# Altium footprint library RF.PcbLib: 1 footprints
Each footprint in its own frame and in the unit in brackets; x right, y up, seen from the top. Pads: shape width x height; smd on the part's side, far side on the other; paste and mask are expansions set on the pad; w line width, h text height; cw(c..) or ccw(c..) is an arc to the next point about the centre after c.
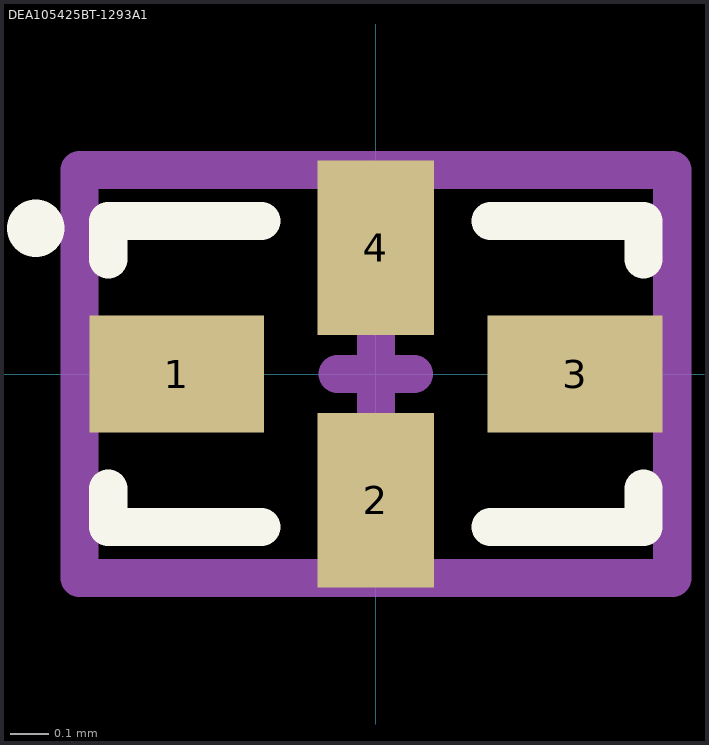
[diagram p0: the footprint, top view; thin cyan lines are the x and y axes]

## DEA105425BT-1293A1 [mil]
pads (4):
  rect 18x12 smd paste+0 mask+0: 1(-20.5,0) 3(20.5,0)
  rect 12x18 smd paste+0 mask+0: 2(0,-13) 4(0,13)
Top Overlay:
  circle w5.91: c-35,15 r0
  lines w3.94: -27.56,-11.81 -27.56,-15.75 -11.81,-15.75 ; -27.56,11.81 -27.56,15.75 -11.81,15.75 ; 11.81,-15.75 27.56,-15.75 27.56,-11.81 ; 11.81,15.75 27.56,15.75 27.56,11.81
Mechanical 15:
  lines w3.94: -3.94,0 3.94,0 ; 0,-3.94 0,3.94 ; -30.5,-21 -16,-21 16,-21 30.5,-21 30.5,-16 30.5,16 30.5,21 16,21 -16,21 -30.5,21 -30.5,16 -30.5,-16 -30.5,-21
3D body "DEA-4_1P0X0P5.step": height 10.12, standoff 0, extent -20.51,-12.99 20.51,12.99